# Altium schematic symbol library load_switch.SchLib: 1 symbol
Pins are listed as number, name and electrical type; pins without a type are passive.

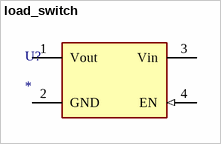
[diagram p0: symbol load_switch]

## load_switch
designator U?
Value: *
pins: 1 Vout (power), 2 GND (power), 3 Vin (power), 4 EN (in)